# Altium footprint library VOR2121B8.PcbLib: 1 footprints
Each footprint in its own frame and in the unit in brackets; x right, y up, seen from the top. Pads: shape width x height; smd on the part's side, far side on the other; paste and mask are expansions set on the pad; w line width, h text height; cw(c..) or ccw(c..) is an arc to the next point about the centre after c.
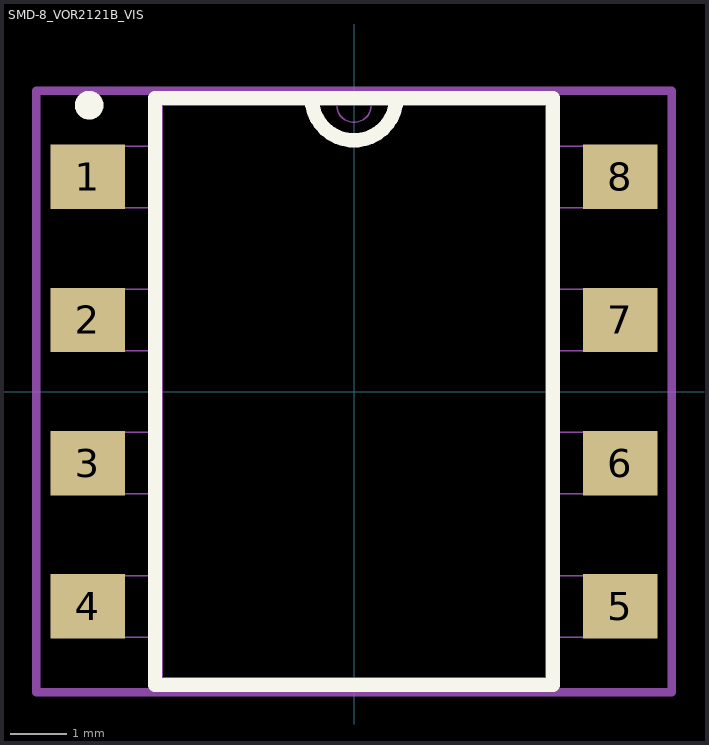
[diagram p0: the footprint, top view; thin cyan lines are the x and y axes]

## SMD-8_VOR2121B_VIS [mil]
pads (8):
  rect 52x45 smd paste+0 mask+0: 1(-186,150) 2(-186,50) 3(-186,-50) 4(-186,-150) 5(186,-150) 6(186,-50) 7(186,50) 8(186,150)
Top Overlay:
  circle w10: c-185,200 r5
  lines w10: -29.53,205 ccw(c0,205) 29.53,205 ; -139,-205 139,-205 139,205 -139,205 -139,-205
Mechanical 13:
  lines w1: -12,200 ccw(c0,200) 12,200 ; -198,-171.5 -198,-128.5 -134,-128.5 -134,-171.5 -198,-171.5 ; -198,-71.5 -198,-28.5 -134,-28.5 -134,-71.5 -198,-71.5 ; -198,28.5 -198,71.5 -134,71.5 -134,28.5 -198,28.5 ; -198,128.5 -198,171.5 -134,171.5 -134,128.5 -198,128.5 ; -134,-200 134,-200 134,200 -134,200 -134,-200 ; 134,-171.5 134,-128.5 198,-128.5 198,-171.5 134,-171.5 ; 134,-71.5 134,-28.5 198,-28.5 198,-71.5 134,-71.5 ; 134,28.5 134,71.5 198,71.5 198,28.5 134,28.5 ; 134,128.5 134,171.5 198,171.5 198,128.5 134,128.5
Mechanical 15:
  lines w6: -222,-210 -222,210 -144,210 144,210 222,210 222,-210 144,-210 -144,-210 -222,-210
3D body "SMD-8_VOR2121B_VIS.step": height 167.09, standoff 0, extent -197.99,-200 197.99,200